# Altium integrated library 6.8uH_inductor.IntLib: 1 symbol
Pins are listed as number, name and electrical type; pins without a type are passive.

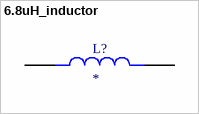
[diagram p0: symbol 6.8uH_inductor]

## 6.8uH_inductor
designator L?
MF: Sumida; MP: 104CDMCCDS-100MC; SnapEDA_Link: https://www.snapeda.com/parts/104CDMCCDS-100MC/Sumida/view-part/?ref=snap; Package: Nonstandard Sumida; Value: *; Check_prices: https://www.snapeda.com/parts/104CDMCCDS-100MC/Sumida/view-part/?ref=eda
footprint Model Name (Footprint not found)
pins: 1, 2